# Altium footprint library SM_CON5x2_2.54_MALE_USB.PcbLib: 1 footprints
Each footprint in its own frame and in the unit in brackets; x right, y up, seen from the top. Pads: shape width x height; smd on the part's side, far side on the other; paste and mask are expansions set on the pad; w line width, h text height; cw(c..) or ccw(c..) is an arc to the next point about the centre after c.
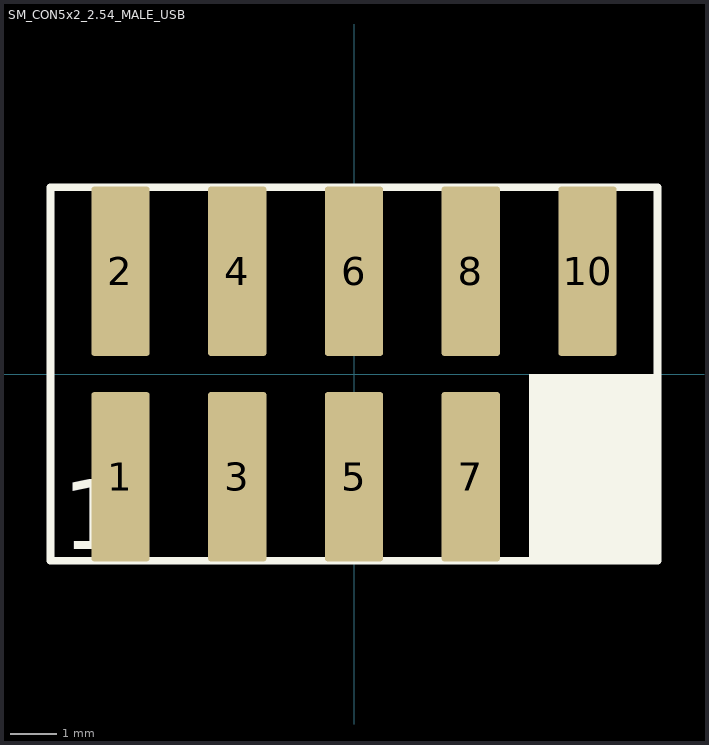
[diagram p0: the footprint, top view; thin cyan lines are the x and y axes]

## SM_CON5x2_2.54_MALE_USB [mil]
pads (9):
  rrect10% 50x145 smd: 1(-200,-88) 2(-200,88) 3(-100,-88) 4(-100,88) 5(0,-88) 6(0,88) 7(100,-88) 8(100,88) 10(200,88)
Top Overlay:
  rectangle: 150,-160 260,0
  lines w6.69: -260,-160 -260,-9.92 -260,160 260,160 260,-160 -260,-160
  text "1" at -250,-150 h60
3D body "TSM-105-01-T-DV-002.stp": height 380, standoff 0, extent -250.01,-151.51 249.99,151.49